# EAGLE library part AP1509 (library crw)
150KHz, 2A PWM BUCK DC/DC CONVERTER
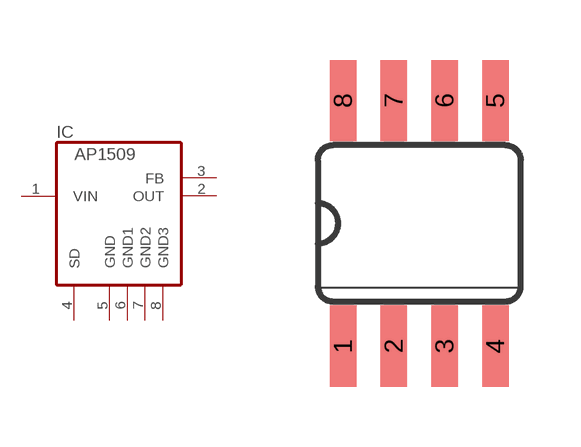
[diagram p1: symbol with the pads of SO08; footprint SO08]

Designator prefix IC

## AP1509 (OC_FARNELL: unknown; OC_NEWARK: unknown)  [SO08]
1  VIN  in
2  OUT  out
3  FB  out
4  SD  in
5  GND  pwr
6  GND1  in
7  GND2  pas
8  GND3  pwr

## Footprint SO08 (pad centres in mm)
Small Outline Package SOIC 150 mil
smd 0.66 x 2.032: 1 -1.905,-3.073; 2 -0.635,-3.073; 3 0.635,-3.073; 4 1.905,-3.073; 5 1.905,3.073; 6 0.635,3.073; 7 -0.635,3.073; 8 -1.905,3.073